# Altium schematic symbol library NC-A GPS Hat.SchLib: 5 symbols
Pins are listed as number, name and electrical type; pins without a type are passive.

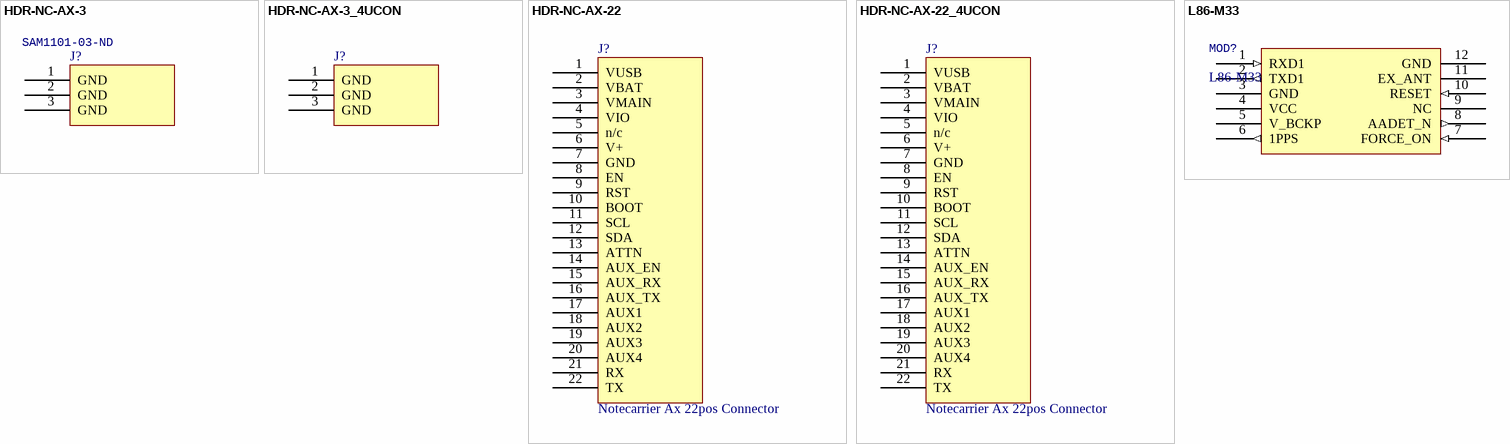
[diagram p0: symbols HDR-NC-AX-3 to L86-M33]

## HDR-NC-AX-3
designator J?, comment Notecarrier Ax 3pos Connector  Supplier Part Number 1: SAM1101-03-ND
Header, 3 pos. For connection to Notecarrier Ax.; Number of Contacts: 22; Number of Positions: 3; Gender: Male; Connector Type: Male Pin; Pitch: 0.1inch; Function 1: Function 1; Function 2: Function 2; Manufacturer 2: Samtec; Manufacturer Part Number 2: TLW-103-06-T-S; RoHS: Yes; Category: Connectors; Pricing 2: 1=2.62000, 10=2.51900, 25=2.30880, 50=2.20380, 100=2.09880, 250=1.83644, 500=1.78398 (USD); Mount: Through Hole; Contact Plating: Tin; Color: Black; Housing Color: Black; Contact Material: Bronze; Housing Material: Plastic; Number of Rows: 1; Termination: Solder; Packaging: Bulk; Package Quantity: 1; Series: Flex Stack, TLW; Contact Type: Male Pin; Length: 55.9mm; Width: 2.45mm; Height: 1.52mm; Contact Mating Length: 0.105inch; Radiation Hardening: No; Lead Free: Lead Free; RoHS Compliant: Yes; ComponentLink1URL: https://datasheet.ciiva.com/6882/tlw-mkt-6882597.pdf?src-supplier=Digi-Key; ComponentLink1Description: https://datasheet.ciiva.com/6882/tlw-mkt-6882597.pdf?src-supplier=Digi-Key; Supplier 1: Digi-Key
footprint HDR-NC-AX-3 (Header, 3pos, to Notecarrier AX)
pins: 1 GND "Pin 1", 2 GND "Pin 1", 3 GND "Pin 1"

## HDR-NC-AX-3_4UCON
designator J?, comment Notecarrier Ax 3pos Connector
Header, 3 pos. For connection to Notecarrier Ax.; Manufacturer: 4UCON; Manufacturer Part Number: 00626; Connector Type: Male Pin; Function 1: Function 1; Function 2: Function 2; ComponentLink1Description: Supplier Page; ComponentLink1URL: http://www.4uconnector.com/online/object/4udrawing/00626.pdf; Category: Connectors; Height: 2.5mm; Supplier 1: 4UCON; Supplier Part Number 1: 00626
footprint HDR-NC-AX-3_4UCON (Header, 3pos, to Notecarrier AX, 2.5 mm body)
pins: 1 GND "Pin 1", 2 GND "Pin 1", 3 GND "Pin 1"

## HDR-NC-AX-22
designator J?, comment Notecarrier Ax 22pos Connector
Header, 22 pos. For connection to Notecarrier Ax.; Number of Contacts: 22; Gender: Male; Connector Type: Male Pin; Pitch: 0.1inch; Function 1: Function 1; Function 2: Function 2; Supplier 1: Newark; Supplier 2: Digi-Key; Manufacturer 2: Samtec; Manufacturer Part Number 2: TLW-122-06-T-S; RoHS: Yes; Category: Connectors; Pricing 2: 1=2.62000, 10=2.51900, 25=2.30880, 50=2.20380, 100=2.09880, 250=1.83644, 500=1.78398 (USD); Mount: Through Hole; Contact Plating: Tin; Color: Black; Housing Color: Black; Contact Material: Bronze; Housing Material: Plastic; Number of Rows: 1; Termination: Solder; Packaging: Bulk; Package Quantity: 1; Number of Positions: 22; Series: Flex Stack, TLW; Contact Type: Male Pin; Length: 55.9mm; Width: 2.45mm; Height: 1.52mm; Contact Mating Length: 0.105inch; Radiation Hardening: No; Lead Free: Lead Free; RoHS Compliant: Yes; ComponentLink1URL: https://datasheet.ciiva.com/6882/tlw-mkt-6882597.pdf?src-supplier=Digi-Key; ComponentLink1Description: https://datasheet.ciiva.com/6882/tlw-mkt-6882597.pdf?src-supplier=Digi-Key; Supplier Part Number 2: SAM1101-22-ND; Supplier Part Number 1: 12P0533
footprint HDR-NC-AX-22 (Header, 22 pos, to Notecarrier AX)
pins: 1 VUSB "Pin 1", 2 VBAT "Pin 1", 3 VMAIN "Pin 1", 4 VIO "Pin 1", 5 n/c "Pin 1", 6 V+ "Pin 1", 7 GND "Pin 1", 8 EN "Pin 1", 9 RST "Pin 1", 10 BOOT "Pin 1", 11 SCL "Pin 1", 12 SDA "Pin 1", 13 ATTN "Pin 1", 14 AUX_EN "Pin 1", 15 AUX_RX "Pin 1", 16 AUX_TX "Pin 1", 17 AUX1 "Pin 1", 18 AUX2 "Pin 1", 19 AUX3 "Pin 1", 20 AUX4 "Pin 1", 21 RX "Pin 1", 22 TX "Pin 1"

## HDR-NC-AX-22_4UCON
designator J?, comment Notecarrier Ax 22pos Connector
Header, 22 pos. For connection to Notecarrier Ax.; Manufacturer: 4UCON; Manufacturer Part Number: 22042; Connector Type: Male Pin; Function 1: Function 1; Function 2: Function 2; Category: Connectors; ComponentLink1Description: Datasheet; ComponentLink1URL: http://www.4uconnector.com/online/object/4udrawing/22042.pdf; Height: 2.5mm; Supplier 1: 4UCON; Supplier Part Number 1: 22042
footprint HDR-NC-AX-22_4UCON (Header, 22 pos, to Notecarrier AX, 2.5mm body)
pins: 1 VUSB "Pin 1", 2 VBAT "Pin 1", 3 VMAIN "Pin 1", 4 VIO "Pin 1", 5 n/c "Pin 1", 6 V+ "Pin 1", 7 GND "Pin 1", 8 EN "Pin 1", 9 RST "Pin 1", 10 BOOT "Pin 1", 11 SCL "Pin 1", 12 SDA "Pin 1", 13 ATTN "Pin 1", 14 AUX_EN "Pin 1", 15 AUX_RX "Pin 1", 16 AUX_TX "Pin 1", 17 AUX1 "Pin 1", 18 AUX2 "Pin 1", 19 AUX3 "Pin 1", 20 AUX4 "Pin 1", 21 RX "Pin 1", 22 TX "Pin 1"

## L86-M33
designator MOD?
Global Navigation Satellite System Module with Patch Antenna. Quectel L86-M33; Manufacturer 1: Quectel Wireless Solutions; Supplier 1: Digi-Key; Manufacturer Part Number 1: L86-M33; RoHS: Yes; Category: Connectors; Pricing 1: 1=12.70000, 10=11.49500, 25=10.58760, 100=9.68000 (USD); ComponentLink1URL: http://www.quectel.com/UploadFile/Product/Quectel_L86_GNSS_Specification_V1.0.pdf?src-supplier=Avnet; ComponentLink1Description: http://www.quectel.com/UploadFile/Product/Quectel_L86_GNSS_Specification_V1.0.pdf?src-supplier=Avnet; Supplier Part Number 1: 2958-L86-M33CT-ND
footprint Quectel L86 (Quectel L86 Module)
pins: 1 RXD1 (in), 2 TXD1 (out), 3 GND, 4 VCC, 5 V_BCKP, 6 1PPS (out), 7 FORCE_ON (in), 8 AADET_N (out), 9 NC, 10 RESET (in), 11 EX_ANT, 12 GND